# Altium footprint library JST_S2B-PH-SM4-TB.PcbLib: 1 footprints
Each footprint in its own frame and in the unit in brackets; x right, y up, seen from the top. Pads: shape width x height; smd on the part's side, far side on the other; paste and mask are expansions set on the pad; w line width, h text height; cw(c..) or ccw(c..) is an arc to the next point about the centre after c.
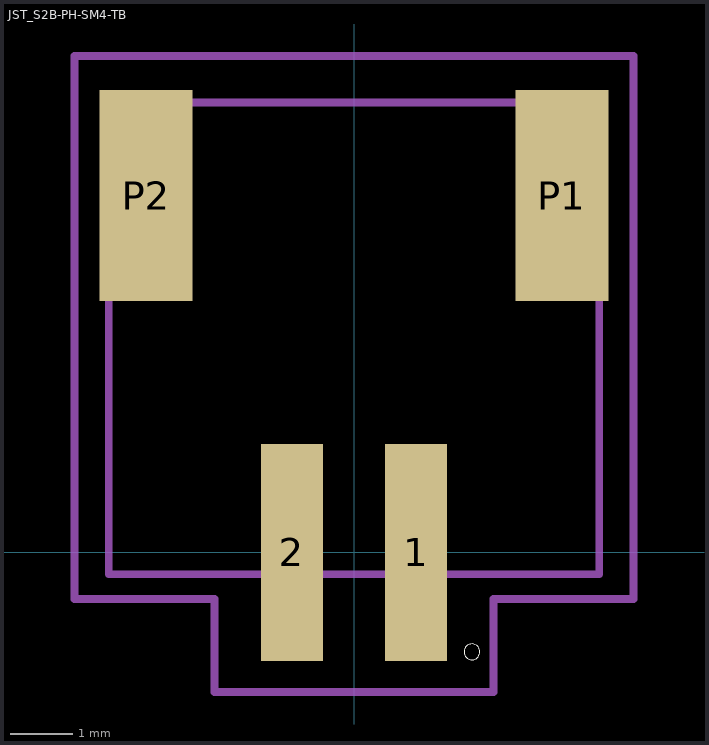
[diagram p0: the footprint, top view; thin cyan lines are the x and y axes]

## JST_S2B-PH-SM4-TB [mm]
pads (4):
  rect 1x3.5 smd: 1(1,0) 2(-1,0)
  rect 1.5x3.4 smd: P1(3.35,5.75) P2(-3.35,5.75)
Top Overlay:
  circle w0: c1.9,-1.6 r0.127
Mechanical 13:
  lines w0.127: -3.95,-0.35 3.95,-0.35 3.95,7.25 -3.95,7.25 -3.95,-0.35
Mechanical 15:
  lines w0.127: -4.5,-0.75 -2.25,-0.75 -2.25,-2.25 2.25,-2.25 2.25,-0.75 4.5,-0.75 4.5,8 -4.5,8 -4.5,-0.75
3D body "S2B-PH-SM4-TB(LF)(SN)--3DModel-STEP-56544.STEP": height 5.5, standoff -0.1, extent -3.963,-0.363 3.937,8.237